# Altium footprint library 很多常用的封装带3D.PcbLib: 48 footprints (part 3 of 3)
Each footprint in its own frame and in the unit in brackets; x right, y up, seen from the top. Pads: shape width x height; smd on the part's side, far side on the other; paste and mask are expansions set on the pad; w line width, h text height; cw(c..) or ccw(c..) is an arc to the next point about the centre after c.
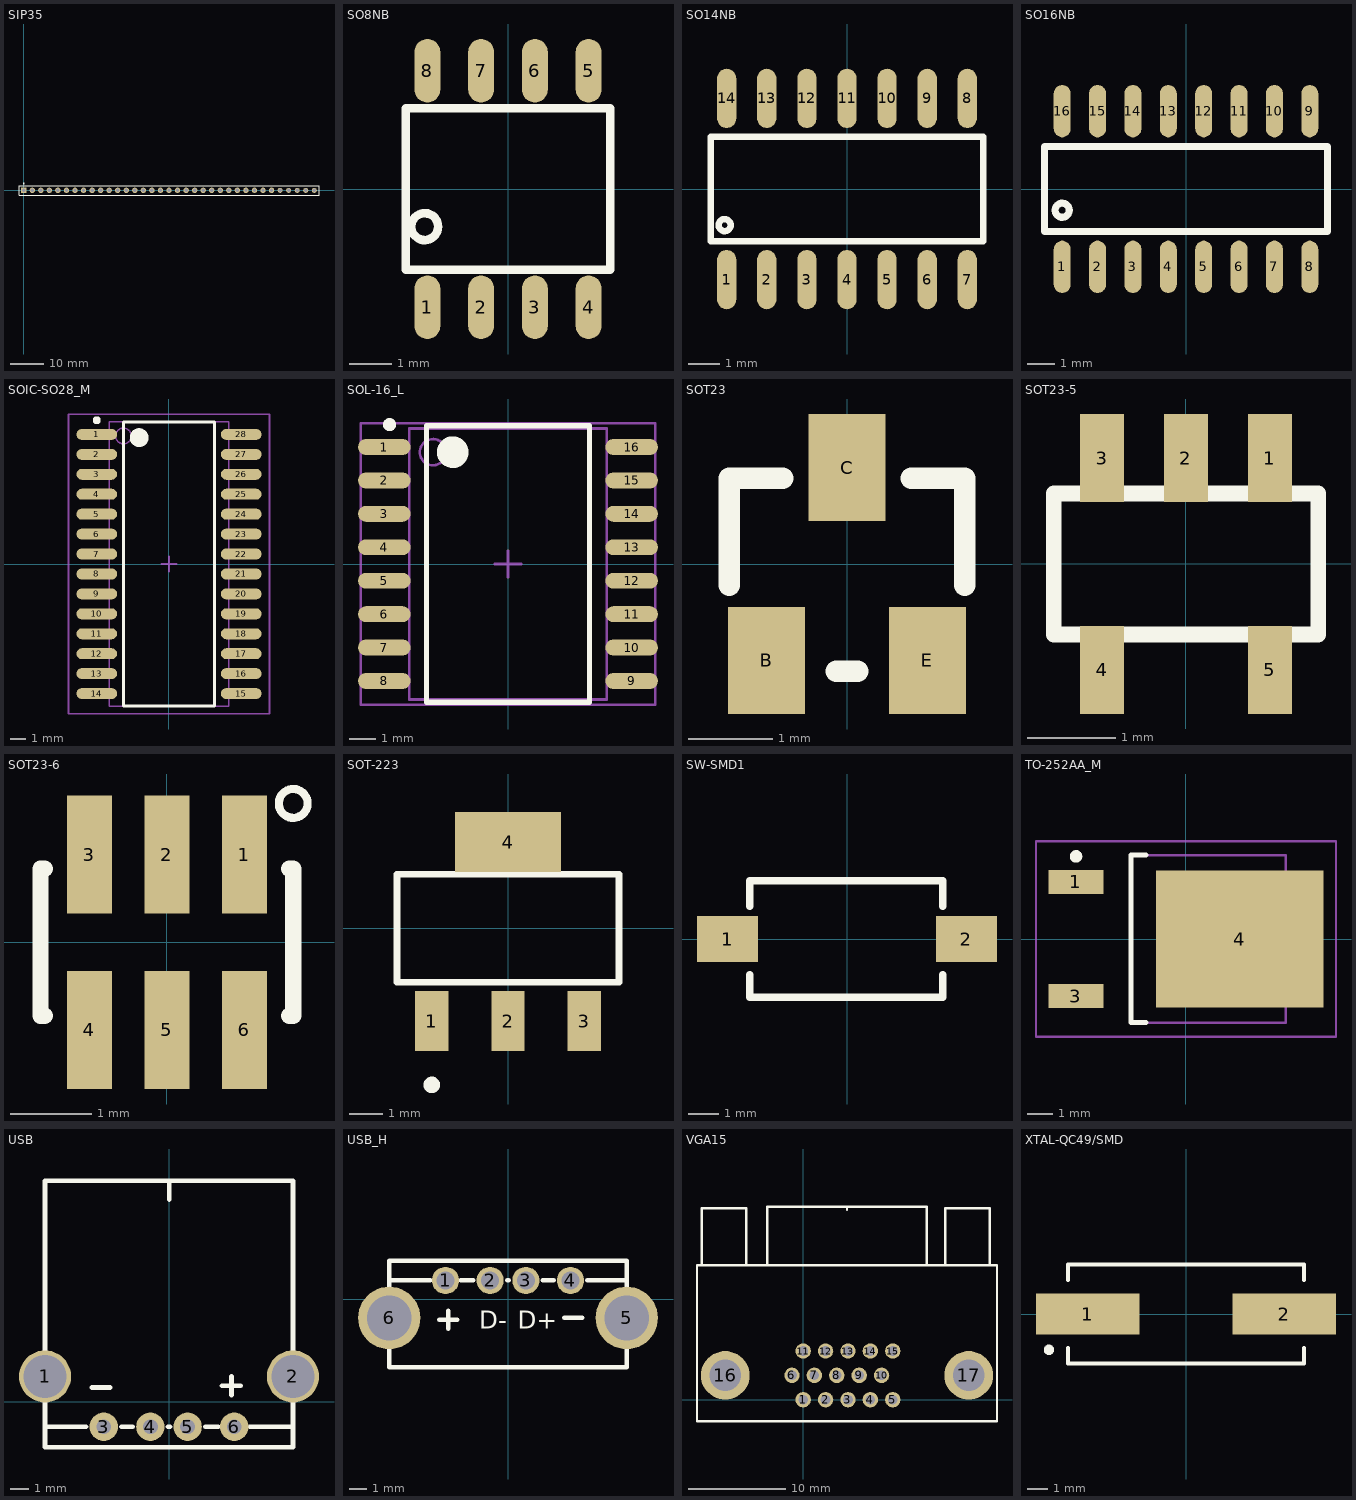
[diagram p2: the footprints below, top view; thin cyan lines are the x and y axes]

## SIP35 [mm] "LCD插座"
pads (35):
  rect 1.6x1.6 hole 0.99: 1(0,0)
  round 1.6 hole 0.99: 2(2.54,0) 3(5.08,0) 4(7.62,0) 5(10.16,0) 6(12.7,0) 7(15.24,0) 8(17.78,0) 9(20.32,0) 10(22.86,0) 11(25.4,0) 12(27.94,0) 13(30.48,0) 14(33.02,0) 15(35.56,0) 16(38.1,0) 17(40.64,0) 18(43.18,0) 19(45.72,0) 20(48.26,0) 21(50.8,0) 22(53.34,0) 23(55.88,0) 24(58.42,0) 25(60.96,0) 26(63.5,0) 27(66.04,0) 28(68.58,0) 29(71.12,0) 30(73.66,0)
  round 1.5 hole 1.1: 31(76.2,0) 32(78.74,0) 33(81.28,0) 34(83.82,0) 35(86.36,0)
Top Overlay:
  circle w0.25: c0,2.05 r0.125
  lines w0.2: -1.4,-1.4 -1.4,1.4 87.757,1.4 87.757,-1.4 -1.4,-1.4

## SO8NB [mil]
pads (8):
  oval 24x59.06 smd: 1(-75,-110) 2(-25,-110) 3(25,-110) 4(75,-110) 5(75,110) 6(25,110) 7(-25,110) 8(-75,110)
Top Overlay:
  circle w8: c-77.5,-35 r12.5
  lines w8: -95,-75 -95,75 95,75 95,-75 -95,-75
3D body: height 61.02, standoff -1.97, extent -96.91,-117.91 96,117.91

## SO14NB [mil]
pads (14):
  oval 24x74 smd: 1(-150,-113) 2(-100,-113) 3(-50,-113) 4(0,-113) 5(50,-113) 6(100,-113) 7(150,-113) 8(150,113) 9(100,113) 10(50,113) 11(0,113) 12(-50,113) 13(-100,113) 14(-150,113)
Top Overlay:
  circle w8: c-152.5,-45 r7.5
  lines w8: -170,-65 -170,65 170,65 170,-65 -170,-65
3D body: height 61.02, standoff -1.97, extent -171.06,-117.83 171.06,118

## SO16NB [mil]
pads (16):
  oval 24x74 smd: 1(-175,-110) 2(-125,-110) 3(-75,-110) 4(-25,-110) 5(25,-110) 6(75,-110) 7(125,-110) 8(175,-110) 9(175,110) 10(125,110) 11(75,110) 12(25,110) 13(-25,110) 14(-75,110) 15(-125,110) 16(-175,110)
Top Overlay:
  circle w10: c-175,-30 r10
  lines w10: -200,-60 -200,60 200,60 200,-60 -200,-60
3D body: height 68.9, standoff 0, extent -193.83,-115 192,113.35

## SOIC-SO28_M [mm] "SOIC, 28-Leads, Body 17.9x7.5mm, Pitch 1.27mm, IPC Low Density"
height 2.65
pads (28):
  oval 2.6x0.7 smd: 1(-4.6,8.255) 2(-4.6,6.985) 3(-4.6,5.715) 4(-4.6,4.445) 5(-4.6,3.175) 6(-4.6,1.905) 7(-4.6,0.635) 8(-4.6,-0.635) 9(-4.6,-1.905) 10(-4.6,-3.175) 11(-4.6,-4.445) 12(-4.6,-5.715) 13(-4.6,-6.985) 14(-4.6,-8.255) 15(4.6,-8.255) 16(4.6,-6.985) 17(4.6,-5.715) 18(4.6,-4.445) 19(4.6,-3.175) 20(4.6,-1.905) 21(4.6,-0.635) 22(4.6,0.635) 23(4.6,1.905) 24(4.6,3.175) 25(4.6,4.445) 26(4.6,5.715) 27(4.6,6.985) 28(4.6,8.255)
Top Overlay:
  circle w0.6: c-1.9,8.05 r0.3
  circle w0.25: c-4.6,9.155 r0.125
  lines w0.2: -2.9,-9.05 2.9,-9.05 2.9,9.05 -2.9,9.05 -2.9,-9.05
Mechanical 13:
  circle w0.1: c-2.9,8.155 r0.5
  lines w0.1: -3.8,-9.055 3.8,-9.055 3.8,9.055 -3.8,9.055 -3.8,-9.055
Mechanical 15:
  lines w0.1: -0.5,0 0.5,0 ; 0,-0.5 0,0.5 ; -6.4,-9.55 6.4,-9.55 6.4,9.55 -6.4,9.55 -6.4,-9.55
3D body: height 2.63, standoff -0.01, extent -5.335,-9.038 5.335,9.042

## SOL-16_L [mm] "16-Pin Small Outline Integrated Circuit 1.27 mm Pitch, IPC High Density"
height 2.65
pads (16):
  oval 2x0.6 smd: 1(-4.7,4.445) 2(-4.7,3.175) 3(-4.7,1.905) 4(-4.7,0.635) 5(-4.7,-0.635) 6(-4.7,-1.905) 7(-4.7,-3.175) 8(-4.7,-4.445) 9(4.7,-4.445) 10(4.7,-3.175) 11(4.7,-1.905) 12(4.7,-0.635) 13(4.7,0.635) 14(4.7,1.905) 15(4.7,3.175) 16(4.7,4.445)
Top Overlay:
  circle w0.6: c-2.1,4.25 r0.3
  circle w0.25: c-4.5,5.295 r0.125
  lines w0.2: -3.1,-5.25 3.1,-5.25 3.1,5.25 -3.1,5.25 -3.1,-5.25
Mechanical 13:
  circle w0.1: c-2.85,4.25 r0.5
  lines w0.1: -3.75,-5.15 3.75,-5.15 3.75,5.15 -3.75,5.15 -3.75,-5.15
Mechanical 15:
  lines w0.1: -0.5,0 0.5,0 ; 0,-0.5 0,0.5 ; -5.6,-5.35 5.6,-5.35 5.6,5.35 -5.6,5.35 -5.6,-5.35
3D body: height 2.65, standoff 0, extent -5.182,-5.144 5.118,5.156

## SOT23 [mil]
pads (3):
  rect 36x50 smd: B(-37.5,-45) C(0,45) E(37.5,-45)
Top Overlay:
  lines w10: -55,-10 -55,40 -30,40 ; -5,-50 5,-50 ; 30,40 55,40 55,-10
3D body: height 39.37, standoff -0.79, extent -57.48,-47 57.48,50.48

## SOT23-5 [mm]
pads (5):
  rect 0.5x1 smd: 1(0.95,1.2) 2(0,1.2) 3(-0.95,1.2) 4(-0.95,-1.2) 5(0.95,-1.2)
Top Overlay:
  lines w0.178: -1.5,-0.8 -1.5,0.8 1.5,0.8 1.5,-0.8 -1.5,-0.8
3D body: height 1.09, standoff -0.01, extent -1.449,-1.399 1.45,1.401

## SOT23-6 [mm] "SOT-23/SC-74A; 5 Leads; Body 3.1 x 3 mm, inc. leads (LxW max)"
height 1.45
pads (6):
  rect 0.55x1.45 smd: 1(0.95,1.075) 2(0,1.075) 3(-0.95,1.075) 4(-0.95,-1.075) 5(0,-1.075) 6(0.95,-1.075)
Top Overlay:
  circle w0.1: c1.549,1.702 r0.177
  lines w0.2: -1.5,-0.9 -1.55,-0.9 -1.55,0.9 -1.5,0.9 ; 1.5,-0.9 1.55,-0.9 1.55,0.9 1.5,0.9
3D body: height 1.08, standoff -0.01, extent -1.397,-1.194 1.397,1.232

## SOT-223 [mm] "SOT-223/SC-73; 4 Leads; Body 6.7 x 7.3 mm, inc. leads (LxW max)"
height 1.78
pads (4):
  rect 1x1.8 smd: 1(-2.3,-2.8) 2(0,-2.8) 3(2.3,-2.8)
  rect 3.2x1.8 smd: 4(0,2.6)
Top Overlay:
  circle w0.25: c-2.3,-4.725 r0.125
  lines w0.2: -3.35,-1.625 3.35,-1.625 3.35,1.625 -3.35,1.625 -3.35,-1.625
3D body: height 1.65, standoff -0.03, extent -3.251,-3.58 3.249,3.38

## SW-SMD1 [mm]
pads (2):
  rect 2x1.5 smd: 1(-3.9,0) 2(3.9,0)
Top Overlay:
  lines w0.254: -3.175,-1.168 -3.175,-1.9 3.125,-1.9 3.125,-1.168 ; -3.175,1.067 -3.175,1.9 3.125,1.9 3.125,1.067
3D body: height 2.5, standoff 0, extent -3.959,-1.945 3.931,1.905

## TO-252AA_M [mm] "D-PAK, 4-Leads, Body 6.1x6.5mm, Pitch 2.28mm, Lead Span 9.8mm, IPC Low Density"
height 2.38
pads (3):
  rect 2.2x0.95 smd: 1(-4.4,2.28) 3(-4.4,-2.28)
  rect 6.7x5.5 smd: 4(2.15,0)
Top Overlay:
  circle w0.25: c-4.4,3.305 r0.125
  lines w0.2: -1.6,-3.35 -2.2,-3.35 -2.2,3.35 -1.6,3.35
Mechanical 13:
  lines w0.1: -2.2,-3.35 -2.2,3.35 4,3.35 4,-3.35 -2.2,-3.35
Mechanical 15:
  lines w0.1: -0.5,0 0.5,0 ; 0,-0.5 0,0.5 ; -6,-3.9 -6,3.9 6,3.9 6,-3.9 -6,-3.9
3D body: height 2.39, standoff -0.02, extent -4.9,-3.27 5.038,3.27

## USB [mm]
pads (6):
  round 2.8 hole 2.3: 1(-6.65,1.35) 2(6.65,1.35)
  round 1.524 hole 0.8: 3(-3.5,-1.35) 4(-1,-1.35) 5(1,-1.35) 6(3.5,-1.35)
Top Overlay:
  lines w0.254: -6.65,-1.35 -4.45,-1.35 ; -4.15,0.75 -3.15,0.75 ; -2.55,-1.35 -1.95,-1.35 ; -0.05,-1.35 0.05,-1.35 ; 0.01,10.85 0.01,11.85 ; 1.95,-1.35 2.65,-1.35 ; 2.85,0.85 3.85,0.85 ; 3.35,0.35 3.35,1.35 ; 4.35,-1.35 6.65,-1.35 ; -6.65,-2.45 6.65,-2.45 6.65,11.85 -6.65,11.85 -6.65,-2.45
3D body: height 7.55, standoff -3.3, extent -7.895,-2.45 7.905,11.71

## USB_H [mm] "立式USB插座"
height 14
pads (6):
  round 1.524 hole 1: 1(-3.5,1.05) 2(-1,1.05) 3(1,1.05) 4(3.5,1.05)
  round 3.5 hole 2.5: 5(6.65,-1.05) 6(-6.65,-1.05)
Top Overlay:
  lines w0.254: -6.65,1.05 -4.35,1.05 ; -3.85,-1.15 -2.85,-1.15 ; -3.35,-1.65 -3.35,-0.65 ; -2.65,1.05 -1.95,1.05 ; -0.05,1.05 0.05,1.05 ; 1.95,1.05 2.55,1.05 ; 3.15,-1.05 4.15,-1.05 ; 4.45,1.05 6.65,1.05 ; -6.65,-3.809 -6.65,2.15 6.65,2.15 6.65,-3.809 -6.65,-3.809
  text "D+" at 0.554,-1.65 h1
  text "D-" at -1.605,-1.65 h1

## VGA15 [mm]
pads (17):
  round 1.58 hole 1: 1(0,0) 2(2.3,0) 3(4.6,0) 4(6.9,0) 5(9.2,0) 6(-1.15,2.5) 7(1.15,2.5) 8(3.45,2.5) 9(5.75,2.5) 10(8.05,2.5) 11(0,5) 12(2.3,5) 13(4.6,5) 14(6.9,5) 15(9.2,5)
  round 5 hole 3.25: 16(-8,2.5) 17(17,2.5)
Top Overlay:
  lines w0.254: -10.9,-2.2 -10.9,13.8 19.9,13.8 19.9,-2.2 -10.89,-2.2 -10.9,-2.19 ; -10.4,13.8 -10.4,19.67 -5.83,19.67 -5.83,13.82 ; -3.7,13.8 -3.7,19.8 12.7,19.8 12.7,13.8 ; 4.5,19.5 4.5,19.8 ; 14.6,13.8 14.6,19.68 19.18,19.68 19.18,13.84
3D body: height 12.77, standoff -3.27, extent -11.055,-0.875 19.755,20.225

## XTAL-QC49/SMD [mm]
pads (2):
  rect 5x2 smd: 1(-4.75,0) 2(4.75,0)
Top Overlay:
  circle w0.25: c-6.625,-1.73 r0.125
  lines w0.2: -5.7,-1.65 -5.7,-2.4 5.7,-2.4 5.7,-1.65 ; -5.7,1.65 -5.7,2.4 5.7,2.4 5.7,1.65
3D body: height 4, standoff 0, extent -6.7,-2.462 6.7,2.438